# Altium schematic symbol library 4-1437565-2.SchLib: 1 symbol
Pins are listed as number, name and electrical type; pins without a type are passive.

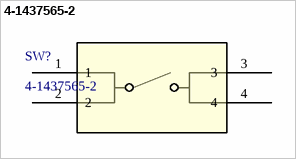
[diagram p0: symbol 4-1437565-2]

## 4-1437565-2
designator SW?
No Description Available; Mfr_Name: TE Connectivity; Copyright: Copyright (C) 2022 Ultra Librarian. All rights reserved.; Manufacturer_Part_Number: 4-1437565-2; RefDes: RefDes; Type: DEV
footprint PCBComponent_1 (Footprint not found)
footprint SW4_FSM-5P23_TEC
pins: 1, 2, 3, 4